# Altium integrated library MT25QU256ABA1EW7-0SIT.IntLib: 1 symbol
Pins are listed as number, name and electrical type; pins without a type are passive.

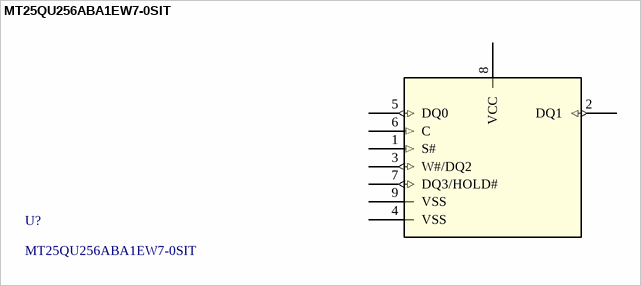
[diagram p0: symbol MT25QU256ABA1EW7-0SIT]

## MT25QU256ABA1EW7-0SIT
designator U?
Description; Manufacturer_Name: Micron; Copyright: Copyright (C) 2025 Ultra Librarian. All rights reserved.; Manufacturer_Part_Number: MT25QU256ABA1EW7-0SIT; RefDes: RefDes; Type: Type
footprint W-PDFN-8MLP8_W7_MRN
pins: 1 S# (in), 2 DQ1 (io), 3 W#/DQ2 (io), 4 VSS (power), 5 DQ0 (io), 6 C (in), 7 DQ3/HOLD# (io), 8 VCC (power), 9 VSS (power)